# Altium footprint library Klema_100A.PcbLib: 1 footprints
Each footprint in its own frame and in the unit in brackets; x right, y up, seen from the top. Pads: shape width x height; smd on the part's side, far side on the other; paste and mask are expansions set on the pad; w line width, h text height; cw(c..) or ccw(c..) is an arc to the next point about the centre after c.
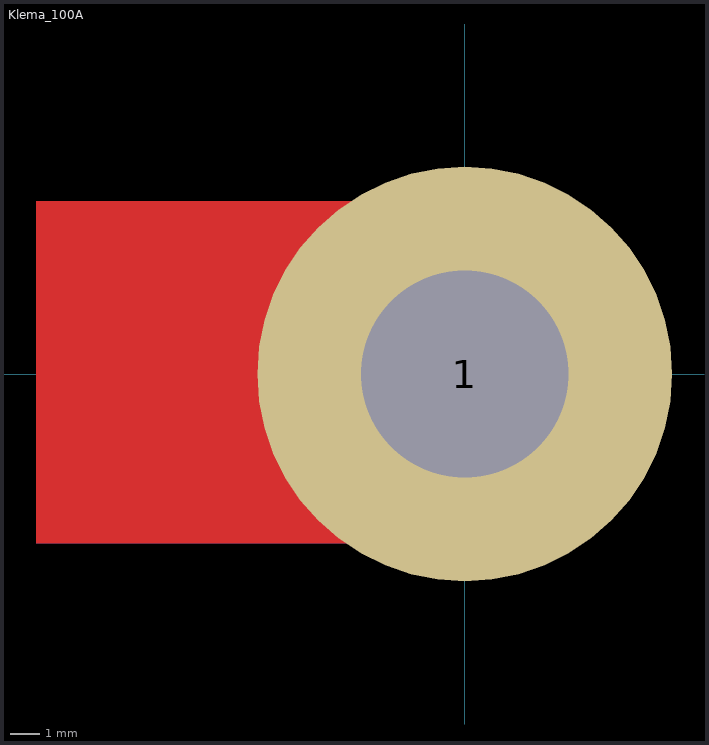
[diagram p0: the footprint, top view; thin cyan lines are the x and y axes]

## Klema_100A [mm]
pads (1):
  round 14 hole 7: 1(0,0)
Top Layer:
  rectangle: -14.478,-5.715 0,5.842
Bottom Layer:
  rectangle: -14.478,-5.715 0,5.842